# EAGLE library part TC1107 (library MULv1)
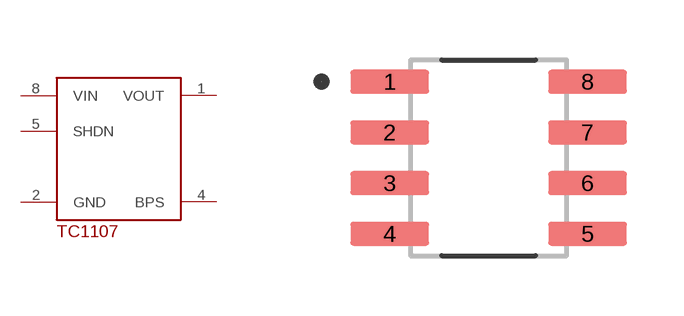
[diagram p0: symbol with the pads of SOIC127P600X175-8N; footprint SOIC127P600X175-8N]

Designator prefix -

## TC1107  [SOIC127P600X175-8N]
1  VOUT  pwr
2  GND  pwr
3  NC0  nc
4  BPS  pas
5  SHDN
6  NC2  nc
7  NC1  nc
8  VIN  pwr

## Footprint SOIC127P600X175-8N (pad centres in mm)
smd 1.97 x 0.6: 1 -2.475,1.905; 2 -2.475,0.635; 3 -2.475,-0.635; 4 -2.475,-1.905; 5 2.475,-1.905; 6 2.475,-0.635; 7 2.475,0.635; 8 2.475,1.905